# EAGLE library part SN65HVD230 (library FaBo-CAN)
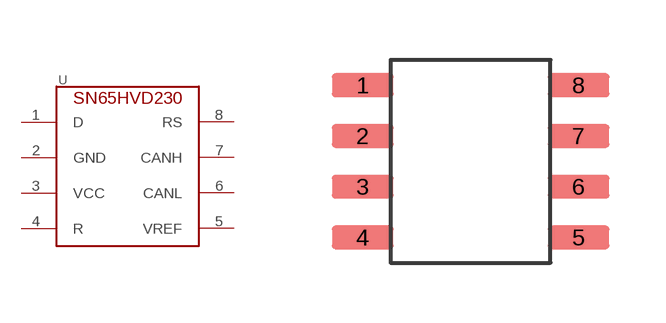
[diagram p0: symbol with the pads of SN65HVD230; footprint SN65HVD230]

Designator prefix -

## SN65HVD230  [SN65HVD230]
1  D
2  GND
3  VCC
4  R
5  VREF
6  CANL
7  CANH
8  RS

## Footprint SN65HVD230 (pad centres in mm)
smd 1.55 x 0.6: 1 -2.7,1.905; 2 -2.7,0.635; 3 -2.7,-0.635; 4 -2.7,-1.905; 5 2.7,-1.905; 6 2.7,-0.635; 7 2.7,0.635; 8 2.7,1.905